# Altium schematic symbol library IND-SM-0402-HF-3.9nH.Schlib: 1 symbol
Pins are listed as number, name and electrical type; pins without a type are passive.

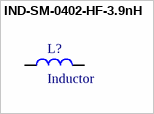
[diagram p0: symbol IND-SM-0402-HF-3.9nH]

## IND-SM-0402-HF-3.9nH
designator L?, comment Inductor
IND SM 0402 CHIP HF 3.9nH 5%
pins: 1, 2